# Altium schematic symbol library SK6812MINI-E.SchLib: 1 symbol
Pins are listed as number, name and electrical type; pins without a type are passive.

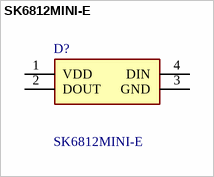
[diagram p0: symbol SK6812MINI-E]

## SK6812MINI-E
designator D?
3.2x2.8x1.78 mm 0.2W Intelligent external control surface mount SMD LED (MSL:5a); Manufacturer_Name: Yellow Stone Corp.; Geometry.Height: 1.88mm; Manufacturer_Part_Number: SK6812MINI-E; Mouser Part Number: *; Mouser Price/Stock: *; Arrow Part Number: *; Arrow Price/Stock: *; Datasheet Link: http://yushakobo.jp/ds/YS-SK6812MINI-E.pdf
footprint SK6812MINIE
pins: 1 VDD, 2 DOUT, 3 GND, 4 DIN